# Altium integrated library TLV62130RGTR.IntLib: 1 symbol
Pins are listed as number, name and electrical type; pins without a type are passive.

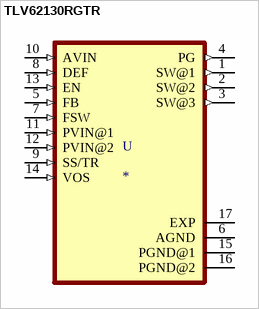
[diagram p0: symbol TLV62130RGTR]

## TLV62130RGTR
designator U
3-17V 3A Step-Down Converter in 3x3 QFN Package 16-VQFN -40 to 85; MP: TLV62130RGTR; MF: Texas Instruments; Mouser-Purchase-URL: https://snapeda.com/shop?store=Mouser&id=423292; Value: *; DigiKey-Purchase-URL: https://snapeda.com/shop?store=DigiKey&id=423292; Package: VQFN-16 Texas Instruments; Texas_Instruments-Purchase-URL: https://snapeda.com/shop?store=Texas+Instruments&id=423292; Price: None; Availability: Unavailable; SnapEDA_Link: https://www.snapeda.com/parts/TLV62130RGTR/Texas%20Instruments/view-part/423292/?ref=snap
footprint QFN50P300X300X100-17N
pins: 1 SW@1 (out), 2 SW@2 (out), 3 SW@3 (out), 4 PG (out), 5 FB (in), 6 AGND (power), 7 FSW (in), 8 DEF (in), 9 SS/TR (in), 10 AVIN (in), 11 PVIN@1 (in), 12 PVIN@2 (in), 13 EN (in), 14 VOS (in), 15 PGND@1 (power), 16 PGND@2 (power), 17 EXP (power)